# Altium footprint library Key_DOME.PcbLib: 1 footprints
Each footprint in its own frame and in the unit in brackets; x right, y up, seen from the top. Pads: shape width x height; smd on the part's side, far side on the other; paste and mask are expansions set on the pad; w line width, h text height; cw(c..) or ccw(c..) is an arc to the next point about the centre after c.
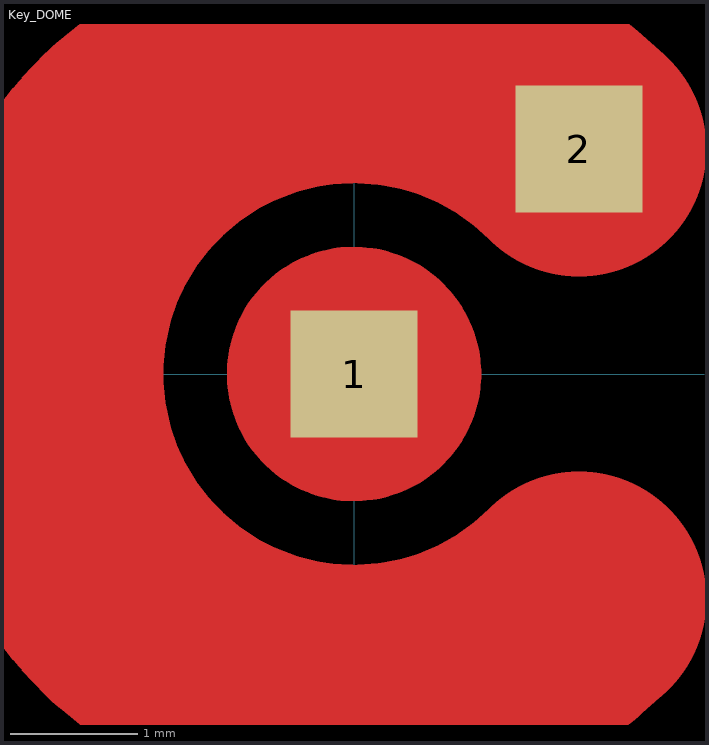
[diagram p0: the footprint, top view; thin cyan lines are the x and y axes]

## Key_DOME [mm]
pads (2):
  rect 1x1 smd: 1(0,0) 2(1.768,1.768)
Top Layer:
  circle w1: c0,0 r0.5
  lines w2: 1.768,-1.768 cw(c0,0) 1.768,1.768
Top Solder:
  circle w1.2: c0,0 r0.5
  lines w2.2: 1.768,-1.768 cw(c0,0) 1.768,1.768